# Altium footprint library 开关.PcbLib: 6 footprints
Each footprint in its own frame and in the unit in brackets; x right, y up, seen from the top. Pads: shape width x height; smd on the part's side, far side on the other; paste and mask are expansions set on the pad; w line width, h text height; cw(c..) or ccw(c..) is an arc to the next point about the centre after c.
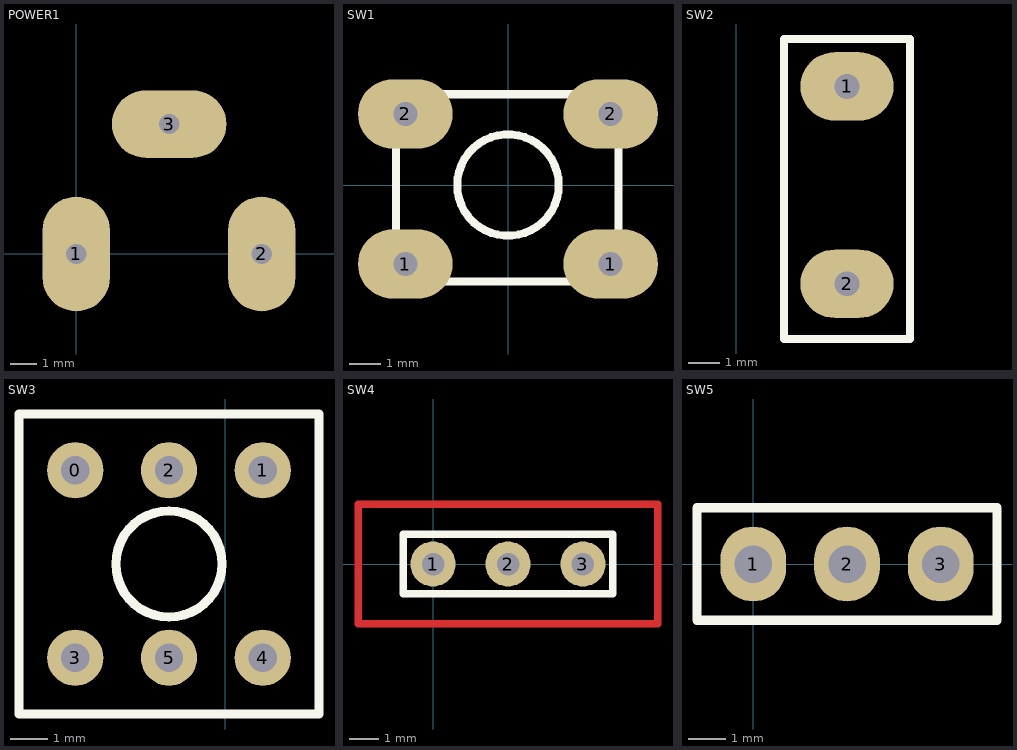
[diagram p0: the footprints below, top view; thin cyan lines are the x and y axes]

## POWER1 [mil]
pads (3):
  oval 100x170 hole 30: 1(0,0) 2(275,0)
  oval 170x100 hole 30: 3(137.8,192.68)

## SW1 [mm]
pads (4):
  oval 2.999x2.2 hole 0.762: 1(-3.25,-2.5) 1(3.25,-2.5) 2(-3.25,2.25) 2(3.25,2.25)
TopOverlay:
  circle w0.254: c0,0 r1.606
  lines w0.254: -3.55,-2.3 -3.55,-3.042 ; 3.125,-3.048 3.444,-3.048 3.5,-2.992 3.556,-3.048 ; 3.125,2.875 3.5,2.875 ; 3.25,-3.048 3.556,-3.048 ; 3.5,-2.948 3.5,2.875 ; -3.55,-3.042 -3.544,-3.048 3.556,-3.048 ; -3.55,-3.042 -3.55,2.875 3.5,2.875

## SW2 [mm]
pads (2):
  oval 3x2.2 hole 0.8: 1(3.556,-2.54) 2(3.556,-8.89)
TopOverlay:
  lines w0.254: 1.524,-10.668 5.588,-10.668 5.588,-1.016 1.524,-1.016 1.524,-10.668

## SW3 [mil]
pads (6):
  round 60 hole 30: 0(-160,340) 1(40,340) 2(-60,340) 3(-160,140) 4(40,140) 5(-60,140)
TopOverlay:
  circle w10: c-60,240 r56.57
  lines w10: -220,80 -220,400 100,400 100,80 -220,80

## SW4 [mil]
pads (3):
  round 60 hole 30: 1(0,0) 2(100,0) 3(200,0)
TopLayer:
  lines w10: -80,80 300,80 300,-80 -100,-80 -100,80 -60,80
TopOverlay:
  lines w10: -40,-40 -40,40 240,40 240,-40 -40,-40

## SW5 [mil]
pads (3):
  oval 70x80 hole 40: 1(0,0) 2(100,0) 3(200,0)
TopOverlay:
  lines w10: -60,-60 -60,60 260,60 260,-60 -60,-60